# Altium footprint library PcbLib_Componentes_HC11.PcbLib: 3 footprints
Each footprint in its own frame and in the unit in brackets; x right, y up, seen from the top. Pads: shape width x height; smd on the part's side, far side on the other; paste and mask are expansions set on the pad; w line width, h text height; cw(c..) or ccw(c..) is an arc to the next point about the centre after c.
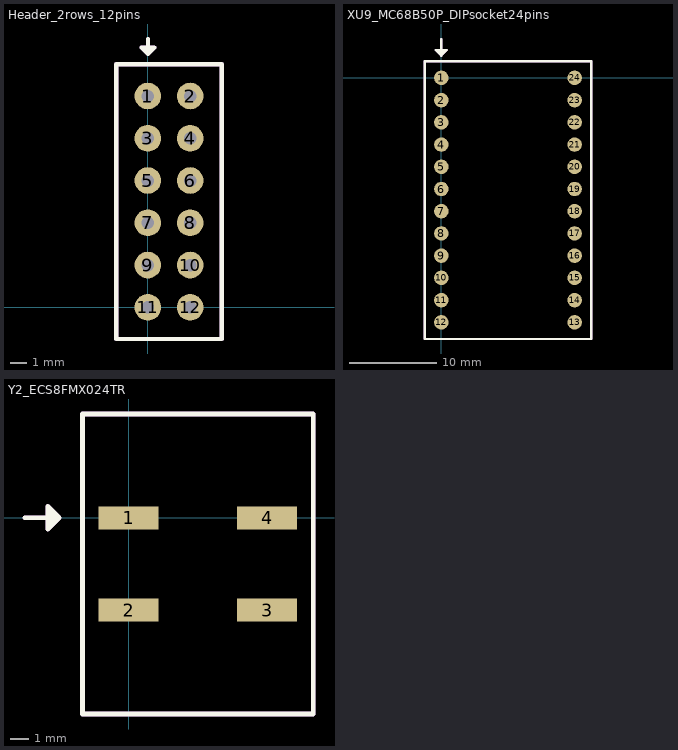
[diagram p0: the footprints below, top view; thin cyan lines are the x and y axes]

## Header_2rows_12pins [mm]
pads (12):
  round 1.6 hole 0.75 paste+0: 1(0,12.7) 2(2.54,12.7) 3(0,10.16) 4(2.54,10.16) 5(0,7.62) 6(2.54,7.62) 7(0,5.08) 8(2.54,5.08) 9(0,2.54) 10(2.54,2.54) 11(0,0) 12(2.54,0)
Top Overlay:
  lines w0.254: 0,16.129 0,15.24 ; 0,15.24 -0.381,15.621 0.381,15.621 0,15.24 ; -1.905,-1.905 4.445,-1.905 4.445,14.605 -1.905,14.605 -1.905,0 -1.905,-1.905
Mechanical 29:
  lines w0.254: 0,16.129 0,15.24 ; 0,15.24 -0.381,15.621 0.381,15.621 0,15.24 ; -1.905,-1.905 4.445,-1.905 4.445,14.605 -1.905,14.605 -1.905,0 -1.905,-1.905
  text "'.Designator'" at 1.644,15.119 h0.8
3D body "CONN_PH2-12-UA_ADM.step": height 8.51, standoff -5.08, extent -1.27,-1.27 3.81,13.97

## XU9_MC68B50P_DIPsocket24pins [mil]
pads (24):
  round 65 smd paste+0: 1(0,0) 2(0,-100) 3(0,-200) 4(0,-300) 5(0,-400) 6(0,-500) 7(0,-600) 8(0,-700) 9(0,-800) 10(0,-900) 11(0,-1000) 12(0,-1100) 13(600,-1100) 14(600,-1000) 15(600,-900) 16(600,-800) 17(600,-700) 18(600,-600) 19(600,-500) 20(600,-400) 21(600,-300) 22(600,-200) 23(600,-100) 24(600,0)
Top Overlay:
  region: 0,100 -25,125 25,125
  lines w10: 0,175 0,100 ; 0,100 25,125 -25,125 0,100 ; -75,-1175 675,-1175 675,75 -75,75 -75,-1175
Mechanical 29:
  region: 0,100 -25,125 25,125
  lines w10: 0,175 0,100 ; 0,100 25,125 -25,125 0,100 ; -75,-1175 675,-1175 675,75 -75,75 -75,-1175
  text "'.Designator'" at 254.72,115.22 h31.5
3D body "MC68B50P.stp": height 340, standoff 2.2, extent -5.51,-1175 605.51,75
3D body "XU9_SMD_DIP_Socket_24pins.stp": height 121.93, standoff 0, extent -50,-1150 650,50

## Y2_ECS8FMX024TR [mil]
pads (4):
  rect 130x50 smd paste+0: 1(0,0) 2(0,-200) 3(300,-200) 4(300,0)
Top Overlay:
  region: -175,-25 -175,25 -150,0
  lines w10: -225,0 -150,0 ; -150,0 -175,25 -175,-25 -150,0 ; -100,-425 400,-425 400,225 -100,225 -100,0 -100,-425
Mechanical 29:
  region: -175,-25 -175,25 -150,0
  lines w10: -225,0 -150,0 ; -150,0 -175,25 -175,-25 -150,0 ; -100,-425 400,-425 400,225 -100,225 -100,0 -100,-425
  text "'.Designator'" at 29.72,240.22 h31.5
3D body "Y2_ECS8FMX.step": height 160.12, standoff 0, extent -42.99,-375.51 342.99,175.51